# Altium footprint library RS232_Level_Shifter.PcbLib: 1 footprints
Each footprint in its own frame and in the unit in brackets; x right, y up, seen from the top. Pads: shape width x height; smd on the part's side, far side on the other; paste and mask are expansions set on the pad; w line width, h text height; cw(c..) or ccw(c..) is an arc to the next point about the centre after c.
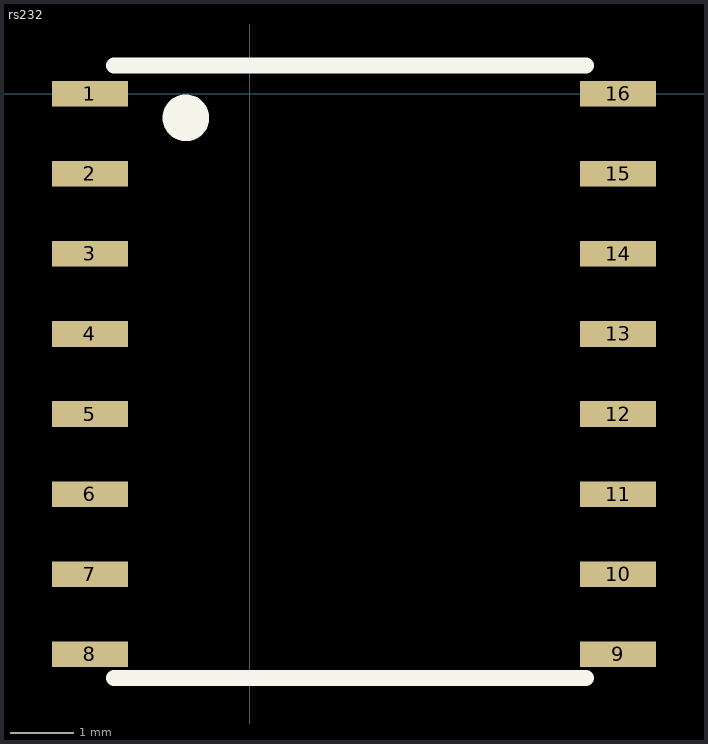
[diagram p0: the footprint, top view; thin cyan lines are the x and y axes]

## rs232 [mil]
pads (16):
  rect 47.5x16 smd: 1(-100,0) 2(-100,-50) 3(-100,-100) 4(-100,-150) 5(-100,-200) 6(-100,-250) 7(-100,-300) 8(-100,-350) 9(230,-350) 10(230,-300) 11(230,-250) 12(230,-200) 13(230,-150) 14(230,-100) 15(230,-50) 16(230,0)
Top Overlay:
  circle w15: c-40,-15 r7.07
  lines w10: -85,-365 210,-365 ; -85,17.59 210,17.6